# EAGLE library part 1636РР4У (library memory)
АЕЯР.431210.647 ТУ 1636РР4У - ПЗУ с электрическим перепрограммированием Flash-типа 16Мбит (2Мх8). Производитель: ЗАО "ПКК Миландр", г. Зеленоград, Москва. Технические условия: АЕЯР.431210.647 ТУ
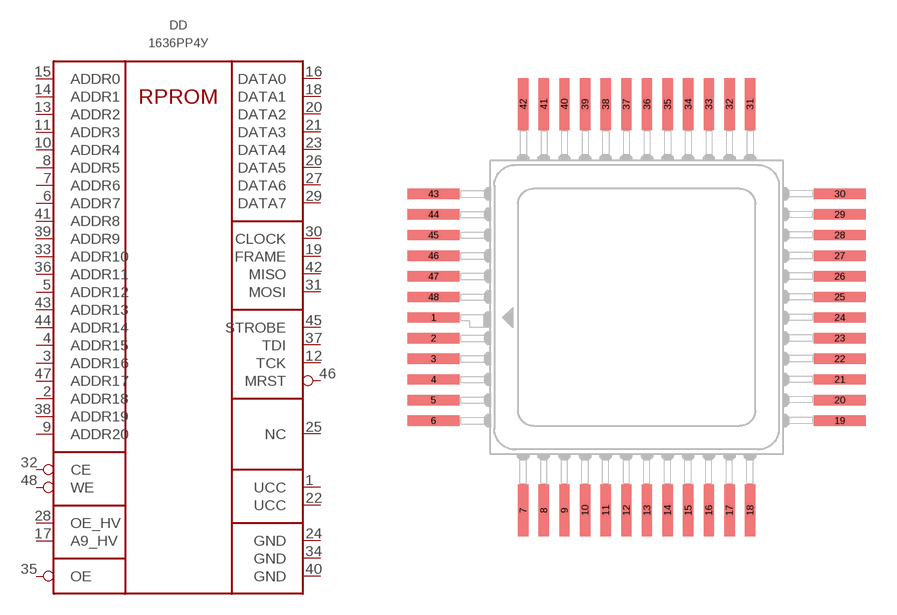
[diagram p1: symbol with the pads of Н16.48-1В; footprint Н16.48-1В]

Designator prefix DD

## 1636РР4У  [Н16.48-1В]
1  UCC  pwr
2  ADDR18  in
3  ADDR16  in
4  ADDR15  in
5  ADDR12  in
6  ADDR7  in
7  ADDR6  in
8  ADDR5  in
9  ADDR20  in
10  ADDR4  in
11  ADDR3  in
12  TCK  in
13  ADDR2  in
14  ADDR1  in
15  ADDR0  in
16  DATA0  out
17  A9_HV  in
18  DATA1  out
19  FRAME  in
20  DATA2  out
21  DATA3  out
22  UCC  pwr
23  DATA4  out
24  GND  pwr
25  NC  nc
26  DATA5  out
27  DATA6  out
28  OE_HV  in
29  DATA7  out
30  CLOCK  in
31  MOSI  in
32  CE  in
33  ADDR10  in
34  GND  pwr
35  OE  in
36  ADDR11  in
37  TDI  in
38  ADDR19  in
39  ADDR9  in
40  GND  pwr
41  ADDR8  in
42  MISO  out
43  ADDR13  in
44  ADDR14  in
45  STROBE  in
46  MRST  in
47  ADDR17  in
48  WE  in

## Footprint Н16.48-1В (pad centres in mm)
smd 2.5 x 0.5: 1 -9.85,-0.5; 2 -9.85,-1.5; 3 -9.85,-2.5; 4 -9.85,-3.5; 5 -9.85,-4.5; 6 -9.85,-5.5; 19 9.85,-5.5; 20 9.85,-4.5; 21 9.85,-3.5; 22 9.85,-2.5; 23 9.85,-1.5; 24 9.85,-0.5; 25 9.85,0.5; 26 9.85,1.5; 27 9.85,2.5; 28 9.85,3.5; 29 9.85,4.5; 30 9.85,5.5; 43 -9.85,5.5; 44 -9.85,4.5; 45 -9.85,3.5; 46 -9.85,2.5; 47 -9.85,1.5; 48 -9.85,0.5
smd 0.5 x 2.5: 7 -5.5,-9.85; 8 -4.5,-9.85; 9 -3.5,-9.85; 10 -2.5,-9.85; 11 -1.5,-9.85; 12 -0.5,-9.85; 13 0.5,-9.85; 14 1.5,-9.85; 15 2.5,-9.85; 16 3.5,-9.85; 17 4.5,-9.85; 18 5.5,-9.85; 31 5.5,9.85; 32 4.5,9.85; 33 3.5,9.85; 34 2.5,9.85; 35 1.5,9.85; 36 0.5,9.85; 37 -0.5,9.85; 38 -1.5,9.85; 39 -2.5,9.85; 40 -3.5,9.85; 41 -4.5,9.85; 42 -5.5,9.85